# Altium footprint library LIB_PCB_Main.PcbLib: 55 footprints (part 1 of 4)
Each footprint in its own frame and in the unit in brackets; x right, y up, seen from the top. Pads: shape width x height; smd on the part's side, far side on the other; paste and mask are expansions set on the pad; w line width, h text height; cw(c..) or ccw(c..) is an arc to the next point about the centre after c.
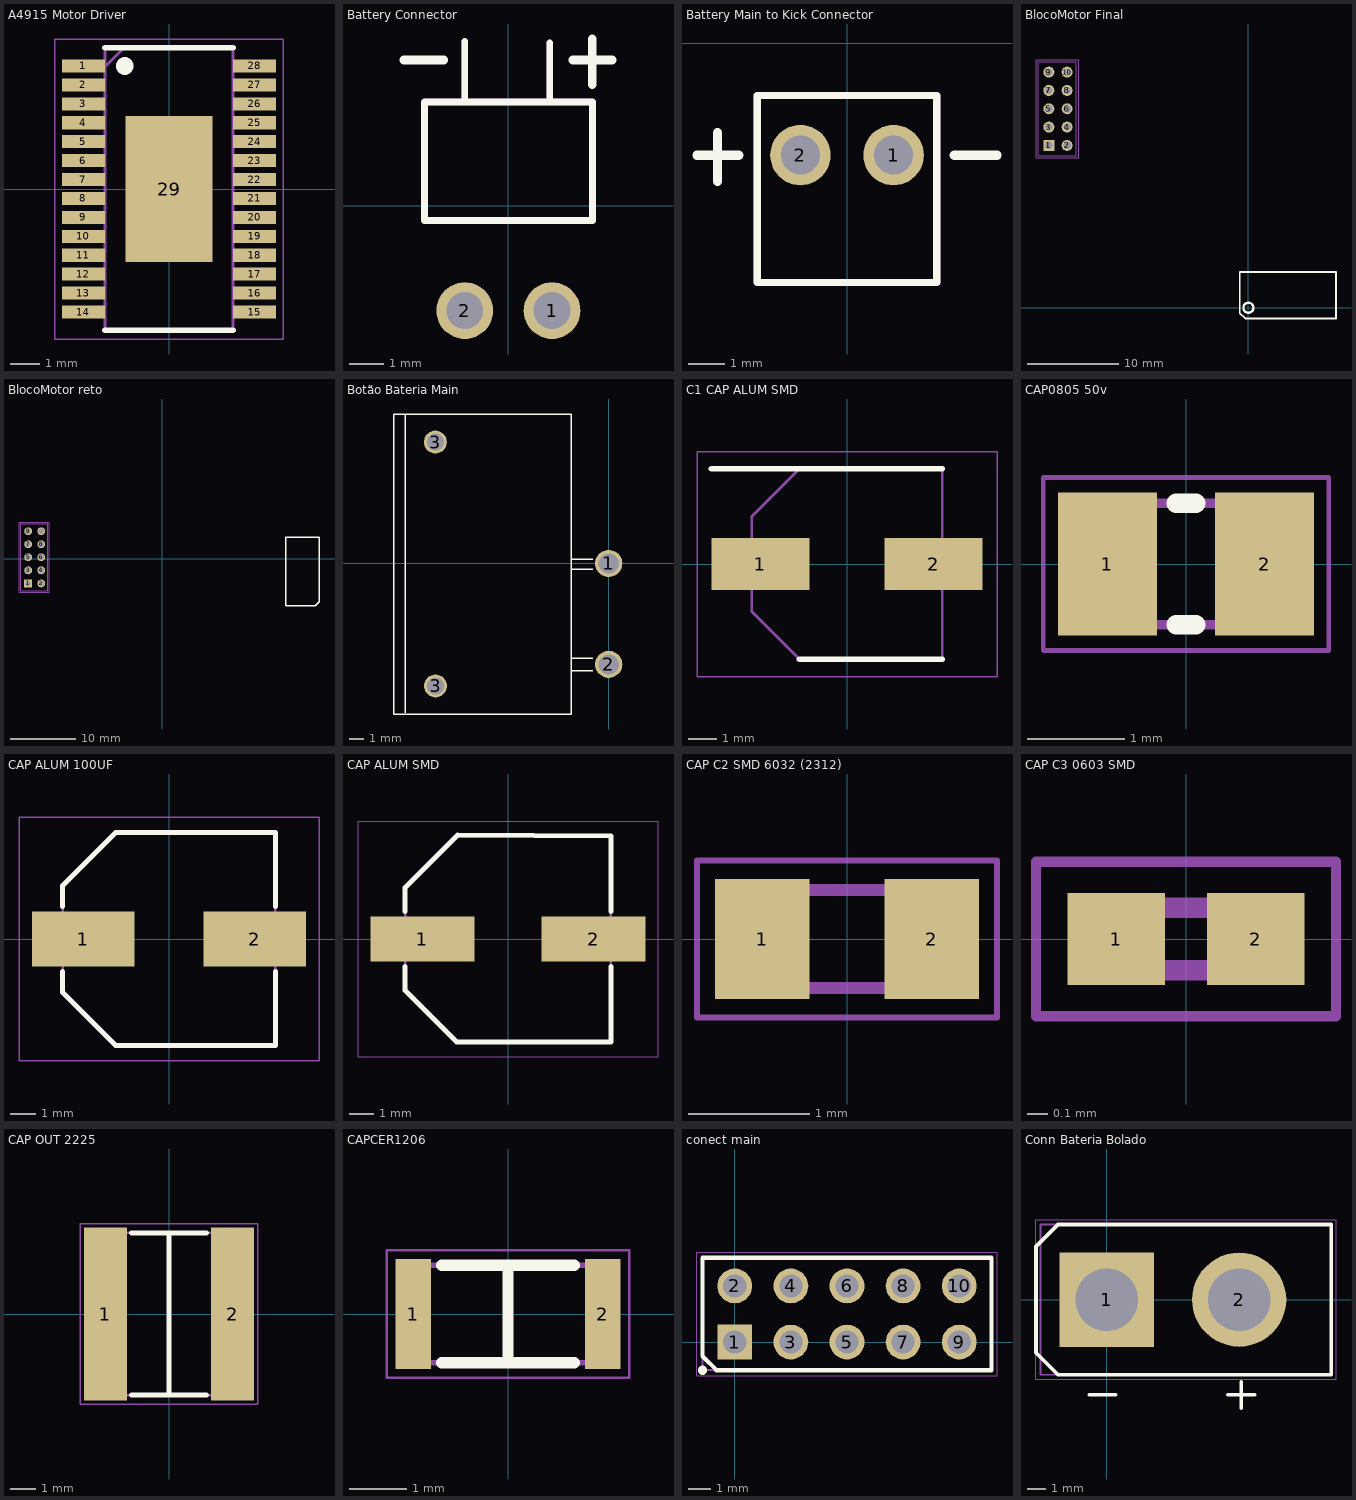
[diagram p0: the footprints below, top view; thin cyan lines are the x and y axes]

## A4915 Motor Driver [mm] "28-Pin TSSOP  with Exposed Thermal Pad"
pads (29):
  rect 1.475x0.45 smd: 1(-2.938,4.225) 2(-2.938,3.575) 3(-2.938,2.925) 4(-2.938,2.275) 5(-2.938,1.625) 6(-2.938,0.975) 7(-2.938,0.325) 8(-2.938,-0.325) 9(-2.938,-0.975) 10(-2.938,-1.625) 11(-2.938,-2.275) 12(-2.938,-2.925) 13(-2.938,-3.575) 14(-2.938,-4.225) 15(2.938,-4.225) 16(2.938,-3.575) 17(2.938,-2.925) 18(2.938,-2.275) 19(2.938,-1.625) 20(2.938,-0.975) 21(2.938,-0.325) 22(2.938,0.325) 23(2.938,0.975) 24(2.938,1.625) 25(2.938,2.275) 26(2.938,2.925) 27(2.938,3.575) 28(2.938,4.225)
  rect 3x5 smd: 29(0,0)
Top Overlay:
  lines w0.2: -2.2,-4.85 2.2,-4.85 ; -2.2,4.85 2.2,4.85
  lines w0.6: -1.524,4.216 -1.524,4.225
Mechanical 13:
  lines w0.1: -2.2,4.2 -1.55,4.85 ; -2.2,-4.85 -2.2,4.85 2.2,4.85 2.2,-4.85 -2.2,-4.85
Mechanical 15:
  lines w0.05: -3.925,-5.15 -3.925,5.15 3.925,5.15 3.925,-5.15 -3.925,-5.15
3D body "A3941KLPTR.stp": height 1.2, standoff 0, extent -3.2,-4.85 3.2,4.85

## Battery Connector [mm] "22-05-3021"
pads (2):
  round 1.65 hole 1.07: 1(1.27,-3.05) 2(-1.27,-3.05)
Top Overlay:
  lines w0.2: -1.27,3.065 -1.27,4.775 ; 1.2,3.023 1.2,4.733 ; -2.445,-0.432 2.445,-0.432 2.445,3.023 -2.445,3.023 -2.445,-0.432
  lines w0.254: -3.048,4.242 -1.88,4.242 ; 1.88,4.242 3.023,4.242 ; 2.438,3.531 2.438,4.851
Mechanical 13:
  lines w0.2: -1.27,3.065 -1.27,4.775 ; 1.2,3.023 1.2,4.733 ; -2.445,-0.432 -2.445,3.023 2.445,3.023 2.445,-0.432 -2.445,-0.432
3D body "22-05-3021.stp": height 6.4, standoff -3.53, extent -2.464,-3.429 2.464,9.5

## Battery Main to Kick Connector [mm] "Da Main até a kick"
pads (2):
  round 1.65 hole 1.07: 1(1.27,-3.05) 2(-1.27,-3.05)
Top Overlay:
  lines w0.2: -2.445,-6.525 2.445,-6.525 2.445,-1.425 1.495,-1.425 -0.95,-1.425 -2.445,-1.425 -2.445,-6.525
  lines w0.254: -4.093,-3.05 -2.95,-3.05 ; -3.534,-3.761 -3.534,-2.44 ; 2.924,-3.05 3.216,-3.05 3.8,-3.05 4.092,-3.05
Mechanical 13:
  lines w0.2: -2.445,-6.525 -2.445,-1.425 2.445,-1.425 2.445,-6.525 -2.445,-6.525
3D body "Conn da Main para Kick.stp": height 8, standoff -3.23, extent -2.489,-6.598 2.489,1.2

## BlocoMotor Final [mm]
pads (10):
  rect 1.2x1.2 hole 0.8: 1(-21.802,17.73)
  round 1.2 hole 0.8: 2(-19.802,17.73) 3(-21.802,19.73) 4(-19.802,19.73) 5(-21.802,21.73) 6(-19.802,21.73) 7(-21.802,23.73) 8(-19.802,23.73) 9(-21.802,25.73) 10(-19.802,25.73)
Top Overlay:
  lines w0.2: -0.947,-0.58 -0.357,-1.17 9.563,-1.17 9.563,3.91 0.498,3.91 -0.947,3.91 -0.947,0.1 -0.947,-0.58
  lines w0.254: 0.543,0.09 ccw(c0,0) 0.55,0
Mechanical 13:
  lines w0.1: -22.952,16.605 -18.802,16.605 -18.802,24.855 -18.802,26.855 -22.952,26.855 -22.952,24.855 -22.952,16.605
Mechanical 15:
  lines w0.05: -23.202,16.355 -18.552,16.355 -18.552,25.105 -18.552,27.105 -23.202,27.105 -23.202,25.105 -23.202,16.355
3D body "Conn Bloco Motor Main.stp": height 6.35, standoff -2.29, extent -23.485,15.993 -18.215,27.557

## BlocoMotor reto [mm]
pads (10):
  rect 1.2x1.2 hole 0.8: 1(-20.575,-3.8)
  round 1.2 hole 0.8: 2(-18.575,-3.8) 3(-20.575,-1.8) 4(-18.575,-1.8) 5(-20.575,0.2) 6(-18.575,0.2) 7(-20.575,2.2) 8(-18.575,2.2) 9(-20.575,4.2) 10(-18.575,4.2)
Top Overlay:
  lines w0.2: 18.92,-7.23 18.92,-5.785 18.92,3.28 24,3.28 24,-6.64 23.41,-7.23 22.73,-7.23 18.92,-7.23
Mechanical 13:
  lines w0.1: -21.725,-4.925 -21.725,3.325 -21.725,5.325 -17.575,5.325 -17.575,3.325 -17.575,-4.925 -21.725,-4.925
Mechanical 15:
  lines w0.05: -21.975,-5.175 -21.975,3.575 -21.975,5.575 -17.325,5.575 -17.325,3.575 -17.325,-5.175 -21.975,-5.175
3D body "BlocoMotorv2.step": height 1.75, standoff -1.06, extent -23.38,-15.52 28.12,12.48

## Botão Bateria Main [mm]
pads (4):
  round 1.9 hole 1.4: 1(0,0) 2(0,-7.04)
  round 1.6 hole 1.2: 3(-12.09,8.46) 3(-12.08,-8.54)
Top Overlay:
  lines w0.1: -14.2,-10.4 -14.2,10.42 ; -2.6,-7.5 -1.1,-7.5 ; -2.6,-6.6 -1.1,-6.6 ; -2.6,-0.4 -1.1,-0.4 ; -2.6,0.3 -1.1,0.3 ; -15,-10.5 -15,9.8 -15,10.42 -2.6,10.42 -2.6,-10.5 -12.9,-10.5 -15,-10.5

## C1 CAP ALUM SMD [mm] "cap um pouco menor"
pads (2):
  rect 3.4x1.8 smd: 1(-3,0) 2(3,0)
Top Overlay:
  lines w0.2: -4.7,3.3 3.3,3.3 ; -1.65,-3.3 3.3,-3.3
Mechanical 13:
  lines w0.1: -3.3,-1.65 -1.65,-3.3 3.3,-3.3 3.3,3.3 -1.65,3.3 -3.3,1.65 -3.3,-1.65
Mechanical 15:
  lines w0.05: -5.2,-3.9 -5.2,3.9 5.2,3.9 5.2,-3.9 -5.2,-3.9
3D body "EEE-1CA101WP.stp": height 6.1, standoff 0, extent -3.9,-3.4 3.9,3.4

## CAP0805 50v [mm] "CAPC2012X94N"
pads (2):
  rect 1.02x1.47 smd: 1(-0.81,0) 2(0.81,0)
Top Overlay:
  lines w0.2: -0.102,0.625 0.102,0.625 0,0.625 ; -0.1,-0.625 0,-0.625 ; 0,-0.625 0.102,-0.625 0,-0.625
Mechanical 13:
  lines w0.1: -1.005,-0.625 -1.005,0.625 1.005,0.625 1.005,-0.625 -1.005,-0.625
Mechanical 15:
  lines w0.05: -1.47,-0.89 -1.47,0.89 1.47,0.89 1.47,-0.89 -1.47,-0.89
3D body "08055A101JAT2A.stp": height 0.94, standoff 0, extent -1.005,-0.625 1.005,0.625

## CAP ALUM 100UF [mm] "CAP ALUM 100UF 20% 50V SMD"
pads (2):
  rect 4x2.15 smd: 1(-3.35,0) 2(3.35,0)
Top Overlay:
  lines w0.2: -4.15,-1.27 -4.15,-2.075 -2.075,-4.15 4.15,-4.15 4.15,-1.27 ; -4.15,1.27 -4.15,2.075 -2.075,4.15 4.15,4.15 4.15,1.27
Mechanical 13:
  lines w0.1: -4.15,-2.075 -4.15,2.075 -2.075,4.15 4.15,4.15 4.15,-4.15 -2.075,-4.15 -4.15,-2.075
Mechanical 15:
  lines w0.05: -5.85,-4.75 5.85,-4.75 5.85,4.75 -5.85,4.75 -5.85,-4.75
3D body "UCD1H101MNL1GS.stp": height 10.5, standoff 0, extent -4.65,-4.25 4.65,4.25

## CAP ALUM SMD [mm] "CAPAE830X650N"
pads (2):
  rect 4.2x1.8 smd: 1(-3.45,0) 2(3.45,0)
Top Overlay:
  lines w0.2: -4.15,-1.118 -4.15,-2.075 -2.075,-4.15 4.15,-4.15 4.15,-1.118 ; -4.15,1.118 -4.15,2.075 -2.034,4.191 -2.032,4.191 4.15,4.15 4.15,1.118
Mechanical 13:
  lines w0.1: -4.15,-2.075 -4.15,2.075 -2.075,4.15 4.15,4.15 4.15,-4.15 -2.075,-4.15 -4.15,-2.075
Mechanical 15:
  lines w0.05: -6.05,-4.75 6.05,-4.75 6.05,4.75 -6.05,4.75 -6.05,-4.75
3D body "EEE-FK1E101P.stp": height 6.5, standoff 0, extent -4.75,-4.25 4.75,4.25

## CAP C2 SMD 6032 (2312) [mm] "Package 2312 (6032 Metric)"
pads (2):
  rect 0.78x0.99 smd: 1(-0.7,0) 2(0.7,0)
Mechanical 13:
  lines w0.1: -0.8,-0.405 0.8,-0.405 0.8,0.405 -0.8,0.405 -0.8,-0.405
Mechanical 15:
  lines w0.05: -1.24,-0.65 1.24,-0.65 1.24,0.65 -1.24,0.65 -1.24,-0.65
3D body "06032C471JAT2A.stp": height 0.9, standoff 0, extent -0.8,-0.405 0.8,0.405

## CAP C3 0603 SMD [mm] "Package 0603 (1608 Metric)"
pads (2):
  rect 0.47x0.44 smd: 1(-0.335,0) 2(0.335,0)
Mechanical 13:
  lines w0.1: -0.3,-0.15 0.3,-0.15 0.3,0.15 -0.3,0.15 -0.3,-0.15
Mechanical 15:
  lines w0.05: -0.72,-0.37 0.72,-0.37 0.72,0.37 -0.72,0.37 -0.72,-0.37
3D body "02013A100DAT2A.stp": height 0.33, standoff 0, extent -0.3,-0.15 0.3,0.15

## CAP OUT 2225 [mm] "CAP CER 200V 2225"
pads (2):
  rect 1.66x6.71 smd: 1(-2.47,0) 2(2.47,0)
Top Overlay:
  lines w0.2: -1.448,-3.15 -0.496,-3.15 0.496,-3.15 1.448,-3.15 ; -1.448,3.15 1.448,3.15 ; 0,-3.05 0,3.05
Mechanical 13:
  lines w0.1: -2.85,-3.15 -2.85,3.15 2.85,3.15 2.85,-3.15 -2.85,-3.15
Mechanical 15:
  lines w0.05: -3.45,-3.51 -3.45,3.51 3.45,3.51 3.45,-3.51 -3.45,-3.51
3D body "2225HC103KAZ1A.stp": height 3.4, standoff 0, extent -2.85,-3.15 2.85,3.15

## CAPCER1206 [mm] "CAPC3317X75N"
pads (2):
  rect 0.62x1.92 smd: 1(-1.65,0) 2(1.65,0)
Top Overlay:
  lines w0.2: -1.15,-0.85 0.025,-0.85 ; -1.15,0.85 0,0.85 1.15,0.85 ; 0,0.75 0,-0.85 1.15,-0.85
Mechanical 13:
  lines w0.1: -1.65,-0.85 1.65,-0.85 1.65,0.85 -1.65,0.85 -1.65,-0.85
Mechanical 15:
  lines w0.05: -2.11,-1.11 2.11,-1.11 2.11,1.11 -2.11,1.11 -2.11,-1.11
3D body "C3216C0G1H103J060AA.stp": height 0.75, standoff 0, extent -1.65,-0.85 1.65,0.85

## conect main [mm]
pads (10):
  rect 1.575x1.575 hole 1.05: 1(0,0)
  round 1.575 hole 1.05: 2(0,2.54) 3(2.54,0) 4(2.54,2.54) 5(5.08,0) 6(5.08,2.54) 7(7.62,0) 8(7.62,2.54) 9(10.16,0) 10(10.16,2.54)
Top Overlay:
  lines w0.2: -1.46,-0.64 -0.83,-1.27 11.62,-1.27 11.62,3.81 0,3.81 -1.46,3.81 -1.46,3.725 -1.46,0 -1.46,-0.64
  lines w0.4: -1.46,-1.29 -1.46,-1.27
Mechanical 13:
  lines w0.1: -1.46,-1.27 -1.46,3.81 11.62,3.81 11.62,-1.27 -1.46,-1.27
Mechanical 15:
  lines w0.05: -1.71,-1.52 -1.71,4.06 11.87,4.06 11.87,-1.52 -1.71,-1.52
3D body "0010897100.stp": height 8.64, standoff -2.72, extent -1.27,-1.27 11.43,3.81

## Conn Bateria Bolado [mm] "Conn que ja vem com a bateria"
pads (2):
  rect 5.1x5.1 hole 3.4: 1(0,0)
  round 5.1 hole 3.4: 2(7.163,0)
Top Overlay:
  lines w0.2: -2.25,-4.064 12.153,-4.064 12.153,4.064 0,4.064 ; -2.05,-4.064 -2.643,-4.064 -3.832,-2.875 -3.832,0 -3.832,2.875 -2.643,4.064 -2.35,4.064 -0.025,4.064 ; -0.95,-5.15 0.475,-5.15 ; 6.562,-5.15 7.987,-5.15 ; 7.275,-5.863 7.275,-4.438
Mechanical 1:
  lines w0.1: -3.582,4.064 0,4.064
Mechanical 13:
  lines w0.1: -3.582,-4.064 -3.582,4.064 12.153,4.064 12.153,-4.064 -3.582,-4.064
Mechanical 15:
  lines w0.05: -3.832,-4.314 -3.832,4.314 12.403,4.314 12.403,-4.314 -3.832,-4.314